# EAGLE library part LM324NSRE4 (library LM324NSRE4)
Check availability <https://pricing.snapeda.com/parts/LM324NSRE4/Texas%20Instruments/view-part?ref=eda>
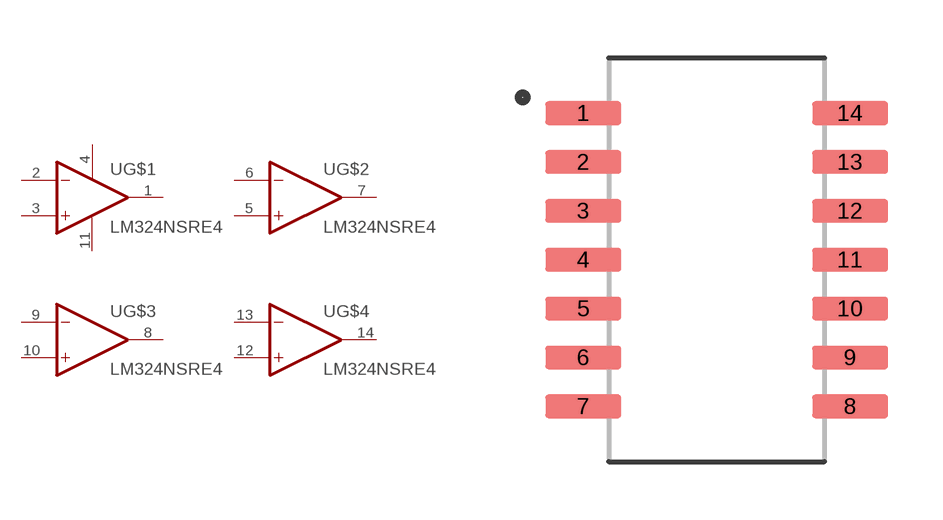
[diagram p0: symbol with the pads of SOIC127P780X200-14N; footprint SOIC127P780X200-14N]

Designator prefix U; gates G$1=LM324NSRE4_SECTION1 G$2=LM324NSRE4_SECTION2 G$3=LM324NSRE4_SECTION3 G$4=LM324NSRE4_SECTION4

## LM324NSRE4 (Availability: In Stock; Description: 4-Channel industry standard operational amplifier 14-SO 0 to 70; MF: Texas Instruments; MP: LM324NSRE4; Package: SOP-14 Texas Instruments; Price: None; Purchase-URL: https://pricing.snapeda.com/search/part/LM324NSRE4/?ref=eda)  [SOIC127P780X200-14N]
1  G$1:1OUT  out
2  G$1:1IN-  in
3  G$1:1IN+  in
4  G$1:VCC  pwr
5  G$2:2IN+  in
6  G$2:2IN-  in
7  G$2:2OUT  out
8  G$3:3OUT  out
9  G$3:3IN-  in
10  G$3:3IN+  in
11  G$1:GND  pwr
12  G$4:4IN+  in
13  G$4:4IN-  in
14  G$4:4OUT  out

## Footprint SOIC127P780X200-14N (pad centres in mm)
smd 1.97 x 0.61: 1 -3.465,3.81; 2 -3.465,2.54; 3 -3.465,1.27; 4 -3.465,0; 5 -3.465,-1.27; 6 -3.465,-2.54; 7 -3.465,-3.81; 8 3.465,-3.81; 9 3.465,-2.54; 10 3.465,-1.27; 11 3.465,0; 12 3.465,1.27; 13 3.465,2.54; 14 3.465,3.81